# Altium footprint library con-phoenix-mkds_5.PCBLIB: 4 footprints
Each footprint in its own frame and in the unit in brackets; x right, y up, seen from the top. Pads: shape width x height; smd on the part's side, far side on the other; paste and mask are expansions set on the pad; w line width, h text height; cw(c..) or ccw(c..) is an arc to the next point about the centre after c.
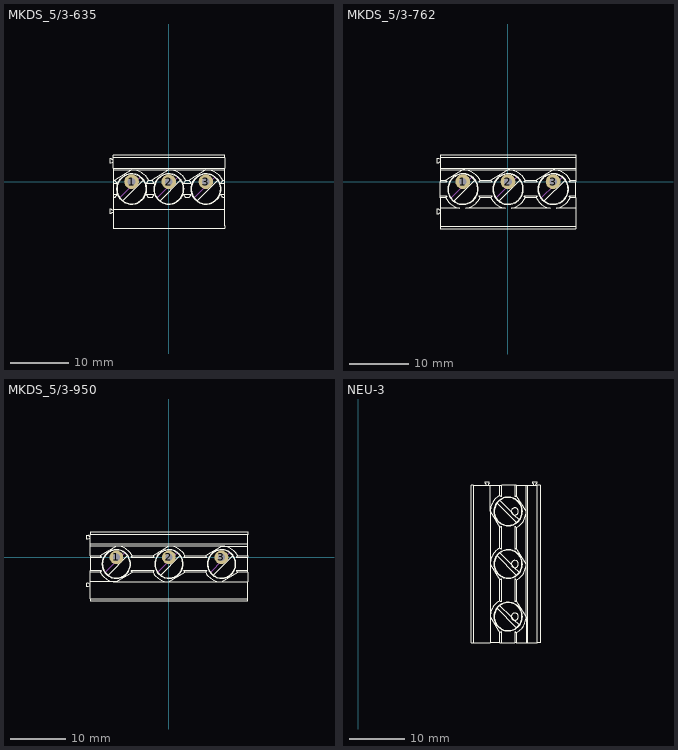
[diagram p0: the footprints below, top view; thin cyan lines are the x and y axes]

## MKDS_5/3-635 [mil]
pads (3):
  round 98.43 hole 51.18: 1(-250,0) 2(0,0) 3(250,0)
Top Overlay:
  drawing of 162 lines, arcs and shapes, not listed
Mechanical 16:
  lines w4: -327.98,-108.38 -247.06,-27.46 ; -190.16,29.44 -223.84,-4.24 ; -77.98,-108.38 2.94,-27.46 ; 59.84,29.44 26.16,-4.24 ; 172.02,-108.38 252.94,-27.46 ; 309.84,29.44 276.16,-4.24 ; -247.06,-27.46 -223.84,-4.24 ; -247.06,-27.46 cw(c-249.33,-1.97) -223.84,-4.24 ; -247.06,-27.46 ccw(c-249.33,-1.97) -223.84,-4.24 ; 2.94,-27.46 26.16,-4.24 ; 2.94,-27.46 ccw(c0.67,-1.97) 26.16,-4.24 ; 2.94,-27.46 cw(c0.67,-1.97) 26.16,-4.24 ; 252.94,-27.46 276.16,-4.24 ; 252.94,-27.46 cw(c250.67,-1.97) 276.16,-4.24 ; 252.94,-27.46 ccw(c250.67,-1.97) 276.16,-4.24

## MKDS_5/3-762 [mil]
pads (3):
  round 98.43 hole 51.18: 1(-300,0) 2(0,0) 3(300,0)
Top Overlay:
  drawing of 157 lines, arcs and shapes, not listed
Mechanical 16:
  lines w4: -378.14,-108.26 -297.22,-27.34 ; -240.32,29.56 -274,-4.12 ; -78.14,-108.26 2.78,-27.34 ; 59.68,29.56 26,-4.12 ; 221.86,-108.26 302.78,-27.34 ; 359.68,29.56 326,-4.12 ; -297.22,-27.34 -274,-4.12 ; -297.22,-27.34 cw(c-299.49,-1.85) -274,-4.12 ; -297.22,-27.34 ccw(c-299.49,-1.85) -274,-4.12 ; 2.78,-27.34 26,-4.12 ; 2.78,-27.34 cw(c0.51,-1.85) 26,-4.12 ; 2.78,-27.34 ccw(c0.51,-1.85) 26,-4.12 ; 302.78,-27.34 326,-4.12 ; 302.78,-27.34 ccw(c300.51,-1.85) 326,-4.12 ; 302.78,-27.34 cw(c300.51,-1.85) 326,-4.12

## MKDS_5/3-950 [mil]
pads (3):
  round 98.43 hole 51.18: 1(-374.02,0) 2(0,0) 3(374.02,0)
Top Overlay:
  drawing of 157 lines, arcs and shapes, not listed
Mechanical 16:
  lines w4: -453.06,-106.89 -372.14,-25.96 ; -315.24,30.94 -348.92,-2.74 ; -78.26,-106.89 2.66,-25.96 ; 59.56,30.94 25.88,-2.74 ; 296.54,-106.89 377.46,-25.96 ; 434.37,30.94 400.69,-2.74 ; -372.14,-25.96 -348.92,-2.74 ; -372.14,-25.96 cw(c-374.41,-0.47) -348.92,-2.74 ; -372.14,-25.96 ccw(c-374.41,-0.47) -348.92,-2.74 ; 2.66,-25.96 25.88,-2.74 ; 2.66,-25.96 cw(c0.39,-0.47) 25.88,-2.74 ; 2.66,-25.96 ccw(c0.39,-0.47) 25.88,-2.74 ; 377.46,-25.96 400.69,-2.74 ; 377.46,-25.96 ccw(c375.2,-0.47) 400.69,-2.74 ; 377.46,-25.96 cw(c375.2,-0.47) 400.69,-2.74

## NEU-3 [mil]
Top Overlay:
  drawing of 172 lines, arcs and shapes, not listed